# EAGLE library part ATTINY-X4 (library PiB_ic_microcontrollers)
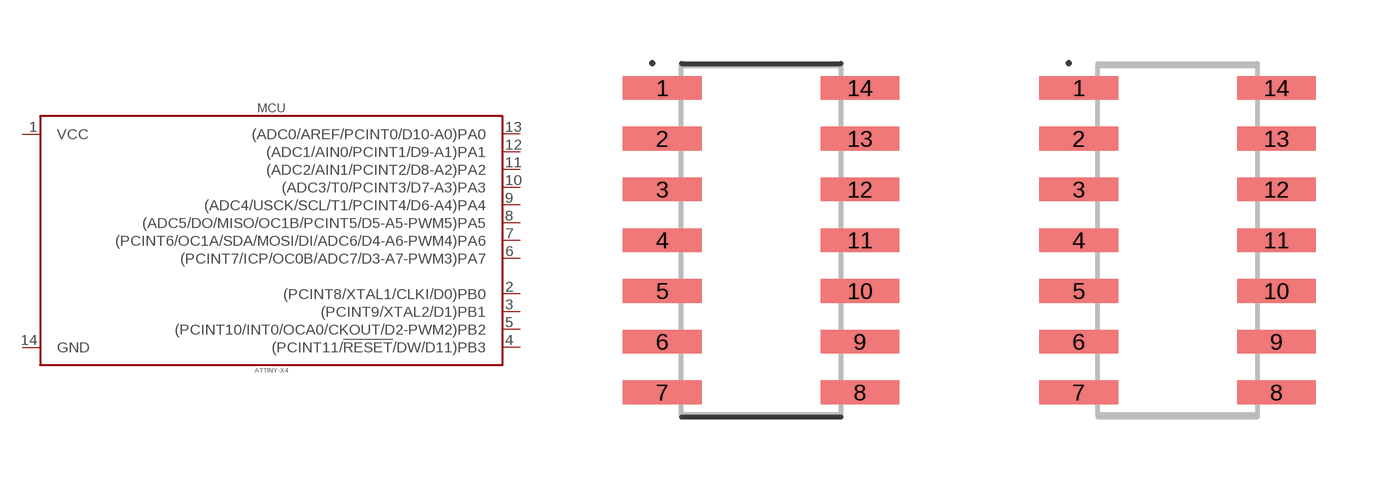
[diagram p4: symbol with the pads of SOIC127P599X175-14_SOIC-14; footprints SOIC127P599X175-14_SOIC-14, SOIC127P599X175-14_SOIC-14_NO-SILK]

Designator prefix MCU

## ATTINY-X4_SOIC-14 (DATASHEET: http://ww1.microchip.com/downloads/en/DeviceDoc/doc8183.pdf; DIST: Digikey; DISTLINK: https://www.digikey.com/products/en?keywords=ATTINY84A-SSU-ND; DISTPN: ATTINY84A-SSU-ND; MFR: Microchip Technology; MPN: ATTINY84A-SSU; VALUE: ATtiny84)  [SOIC127P599X175-14_SOIC-14]
1  VCC  pas
2  (PCINT8/XTAL1/CLKI/D0)PB0
3  (PCINT9/XTAL2/D1)PB1
4  (PCINT11/!RESET!/DW/D11)PB3
5  (PCINT10/INT0/OCA0/CKOUT/D2-PWM2)PB2
6  (PCINT7/ICP/OC0B/ADC7/D3-A7-PWM3)PA7
7  (PCINT6/OC1A/SDA/MOSI/DI/ADC6/D4-A6-PWM4)PA6
8  (ADC5/DO/MISO/OC1B/PCINT5/D5-A5-PWM5)PA5
9  (ADC4/USCK/SCL/T1/PCINT4/D6-A4)PA4
10  (ADC3/T0/PCINT3/D7-A3)PA3
11  (ADC2/AIN1/PCINT2/D8-A2)PA2
12  (ADC1/AIN0/PCINT1/D9-A1)PA1
13  (ADC0/AREF/PCINT0/D10-A0)PA0
14  GND  pas

## ATTINY-X4_SOIC-14_NO_SILK (DATASHEET: http://ww1.microchip.com/downloads/en/DeviceDoc/doc8183.pdf; DIST: Digikey; DISTLINK: https://www.digikey.com/products/en?keywords=ATTINY84A-SSU-ND; DISTPN: ATTINY84A-SSU-ND; MFR: Microchip Technology; MPN: ATTINY84A-SSU; VALUE: ATtiny84)  [SOIC127P599X175-14_SOIC-14_NO-SILK]
Pads as for SOIC127P599X175-14_SOIC-14

## ATTINY-X4_DIP-14_ATTINY-84 (DATASHEET: http://www.microchip.com/mymicrochip/filehandler.aspx?ddocname=en590190; DIST: Digikey; DISTLINK: https://www.digikey.com/products/en?keywords=ATTINY84A-PU-ND; DISTPN: ATTINY84A-PU-ND; MFR: Microchip Technology; MPN: ATTINY84A-PU; VALUE: ATtiny84)  [DIP793W45P254L1919H533Q14B_DIP-14_ATTINY-X4]
Pads as for SOIC127P599X175-14_SOIC-14

## ATTINY-X4_DIP-14_ATTINY-84_CONNECTOR (DATASHEET: ATTINY24A,44A,84A Complete; DATASHEET_CONNECTOR: http://www.assmann-wsw.com/fileadmin/datasheets/ASS_0810_CO.pdf; DIST: Digikey; DISTLINK: https://www.digikey.com/products/en?keywords=ATTINY84A-PU-ND; DISTLINK_CONNECTOR: https://www.digikey.com/products/en?keywords=AE9989-ND; DISTPN: ATTINY84A-PU-ND; DISTPN_CONNECTOR: AE9989-ND; DIST_CONNECTOR: Digikey; MFR: Microchip Technology; MFR_CONNECTOR: Assmann WSW Components; MPN: ATTINY84A-PU; MPN_CONNECTOR: A 14-LC-TT; VALUE: ATtiny84)  [DIP794W46P254L1919H533Q14B_DIP-14_CONNECTOR]
Pads as for SOIC127P599X175-14_SOIC-14

## Footprint SOIC127P599X175-14_SOIC-14 (pad centres in mm)
14-SOIC, 1.27 mm pitch, 5.995 mm span, 8.645 X 3.895 X 1.75 mm body 14-pin SOIC package with 1.27 mm pitch, 5.995 mm span with body size 8.645 X 3.895 X 1.75 mm
smd 1.967 x 0.594: 1 -2.469,3.81; 2 -2.469,2.54; 3 -2.469,1.27; 4 -2.469,0; 5 -2.469,-1.27; 6 -2.469,-2.54; 7 -2.469,-3.81; 8 2.469,-3.81; 9 2.469,-2.54; 10 2.469,-1.27; 11 2.469,0; 12 2.469,1.27; 13 2.469,2.54; 14 2.469,3.81

## Footprint SOIC127P599X175-14_SOIC-14_NO-SILK (pad centres in mm)
14-SOIC, 1.27 mm pitch, 5.995 mm span, 8.645 X 3.895 X 1.75 mm body 14-pin SOIC package with 1.27 mm pitch, 5.995 mm span with body size 8.645 X 3.895 X 1.75 mm
smd 1.967 x 0.594: 1 -2.469,3.81; 2 -2.469,2.54; 3 -2.469,1.27; 4 -2.469,0; 5 -2.469,-1.27; 6 -2.469,-2.54; 7 -2.469,-3.81; 8 2.469,-3.81; 9 2.469,-2.54; 10 2.469,-1.27; 11 2.469,0; 12 2.469,1.27; 13 2.469,2.54; 14 2.469,3.81

## Footprint DIP793W45P254L1919H533Q14B_DIP-14_ATTINY-X4 (pad centres in mm)
14-DIP, 2.54 mm (0.10 in) pitch, 7.9375 mm (0.31 in) span, 19.192 X 6.604 X 5.334 mm body 14-pin DIP package with 2.54 mm (0.10 in) pitch, 7.9375 mm (0.31 in) span with body size 19.192 X 6.604 X 5.334 mm
drill 0.736 pad 1.472: 1 -3.969,7.62; 2 -3.969,5.08; 3 -3.969,2.54; 4 -3.969,0; 5 -3.969,-2.54; 6 -3.969,-5.08; 7 -3.969,-7.62; 8 3.969,-7.62; 9 3.969,-5.08; 10 3.969,-2.54; 11 3.969,0; 12 3.969,2.54; 13 3.969,5.08; 14 3.969,7.62

## Footprint DIP794W46P254L1919H533Q14B_DIP-14_CONNECTOR (pad centres in mm)
14-DIP, 2.54 mm (0.10 in) pitch, 7.94 mm (0.31 in) span, 19.19 X 6.605 X 5.33 mm body 14-pin DIP package with 2.54 mm (0.10 in) pitch, 7.94 mm (0.31 in) span with body size 19.19 X 6.605 X 5.33 mm
drill 0.739 pad 1.477: 1 -3.97,7.62; 2 -3.97,5.08; 3 -3.97,2.54; 4 -3.97,0; 5 -3.97,-2.54; 6 -3.97,-5.08; 7 -3.97,-7.62; 8 3.97,-7.62; 9 3.97,-5.08; 10 3.97,-2.54; 11 3.97,0; 12 3.97,2.54; 13 3.97,5.08; 14 3.97,7.62